# Altium schematic symbol library vesc.SchLib: 12 symbols
Pins are listed as number, name and electrical type; pins without a type are passive.

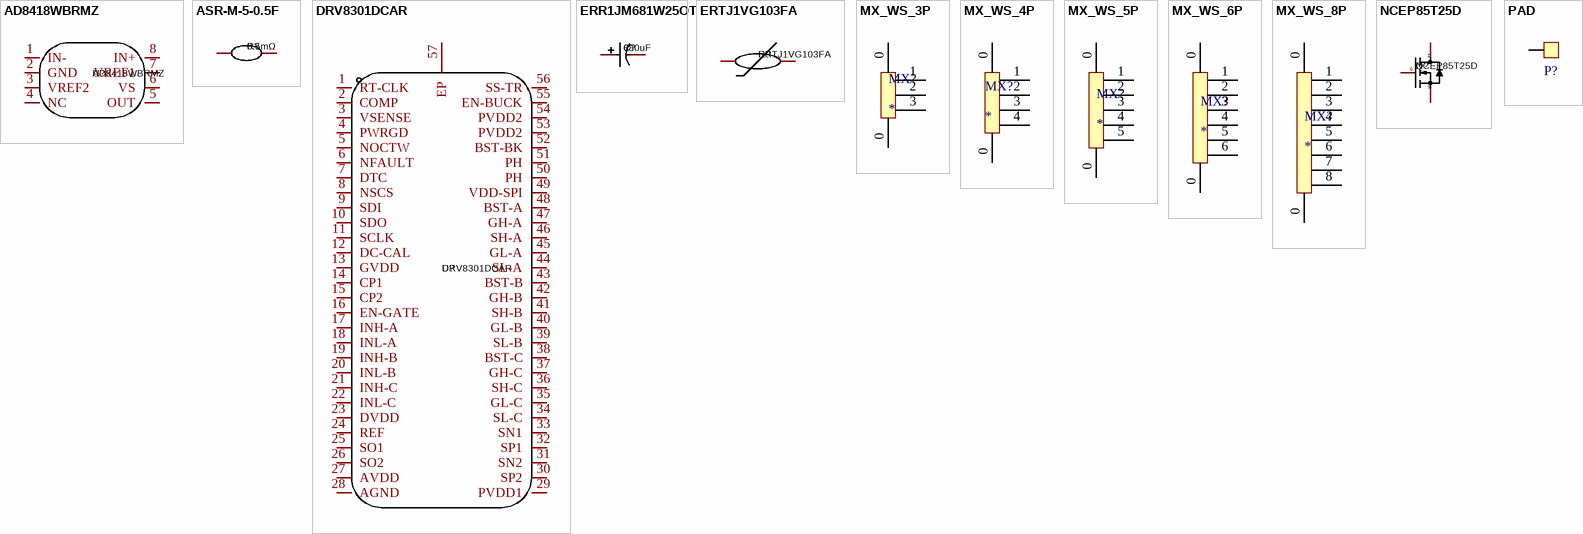
[diagram p0: symbols AD8418WBRMZ to PAD]

## AD8418WBRMZ
designator U?
Manufacturer: ADI(亚德诺); Add into BOM: yes; Number of Channels: 单路; Supply Current: 2.6mA; Name: AD8418WBRMZ; Symbol: AD8418WBRMZ; Device: AD8418WBRMZ; LCSC Part Name: AD8418WBRMZ; Supplier Part: C207727; Manufacturer Part: AD8418WBRMZ; Supplier Footprint: MSOP-8; JLCPCB Part Class: Extended Part; Datasheet: https://atta.szlcsc.com/upload/public/pdf/source/20200312/C495342_AB22F5CA716828B66C7BAA0F926F15C0.pdf; Supplier: LCSC; Convert to PCB: yes; Operating Temperature: -40℃~+125℃
footprint MSOP-8_L3.0-W3.0-P0.65-LS5.0-BL
3D model MSOP-8_L3.0-W3.0-P0.65-LS5.0-BL
pins: 1 IN-, 2 GND, 3 VREF2, 4 NC, 5 OUT, 6 VS, 7 VREF1, 8 IN+

## ASR-M-5-0.5F
designator R?, comment 0.5mΩ
Manufacturer: yezhan(业展); Symbol: ASR-M-5-0.5F; Add into BOM: yes; Tolerance: ±1%; Power(Watts): 9W; Temperature Coefficient: ±70ppm/℃; Mounting Sytle: 贴片; Name: 0.5mΩ; Device: ASR-M-5-0.5F; LCSC Part Name: 0.5mΩ ±1% 9W; Supplier Part: C469433; Manufacturer Part: ASR-M-5-0.5F; Supplier Footprint: 3920; JLCPCB Part Class: Extended Part; Datasheet: https://atta.szlcsc.com/upload/public/pdf/source/20231030/E912096EFF708041568A0F74B4C79E56.pdf; Supplier: LCSC; Convert to PCB: yes; Type: 分流器; Value: 0.5mΩ; Rated Output Voltage: -; Rated Current: -
footprint R3920
3D model R3920
pins: 1, 2

## DRV8301DCAR
designator U?
Manufacturer: TI(德州仪器); Add into BOM: yes; Name: DRV8301DCAR; Symbol: DRV8301DCAR; Device: DRV8301DCAR; LCSC Part Name: 无刷直流BLDC电机驱动芯片 60V; Supplier Part: C98969; Manufacturer Part: DRV8301DCAR; Supplier Footprint: HTSSOP-56-6mm; JLCPCB Part Class: Extended Part; Datasheet: https://www.ti.com/cn/lit/gpn/drv8301; Supplier: LCSC; Convert to PCB: yes
footprint HTSSOP-56_L14.0-W6.0-P0.50-LS8.0-BL
3D model HTSSOP-56_L14.0-W6.1-H1.2-LS8.2-P0.50
pins: 1 RT-CLK, 2 COMP, 3 VSENSE, 4 PWRGD, 5 NOCTW, 6 NFAULT, 7 DTC, 8 NSCS, 9 SDI, 10 SDO, 11 SCLK, 12 DC-CAL, 13 GVDD, 14 CP1, 15 CP2, 16 EN-GATE, 17 INH-A, 18 INL-A, 19 INH-B, 20 INL-B, 21 INH-C, 22 INL-C, 23 DVDD, 24 REF, 25 SO1, 26 SO2, 27 AVDD, 28 AGND, 29 PVDD1, 30 SP2, 31 SN2, 32 SP1, 33 SN1, 34 SL-C, 35 GL-C, 36 SH-C, 37 GH-C, 38 BST-C, 39 SL-B, 40 GL-B, 41 SH-B, 42 GH-B, 43 BST-B, 44 SL-A, 45 GL-A, 46 SH-A, 47 GH-A, 48 BST-A, 49 VDD-SPI, 50 PH, 51 PH, 52 BST-BK, 53 PVDD2, 54 PVDD2, 55 EN-BUCK, 56 SS-TR, 57 EP

## ERR1JM681W25OT
designator C?, comment 680uF
Manufacturer: AISHI(艾华集团); Symbol: ERR1JM681W25OT; Add into BOM: yes; Tolerance: ±20%; Rated Voltage: 63V; φD: 12.5mm; L: 25mm; Lifetime @ Temp: 2000hrs@105℃; Name: 680uF; Device: ERR1JM681W25OT; LCSC Part Name: 680uF ±20% 63V; Supplier Part: C106632; Manufacturer Part: ERR1JM681W25OT; Supplier Footprint: 插件,D12.5xL25mm; JLCPCB Part Class: Extended Part; Datasheet: https://atta.szlcsc.com/upload/public/pdf/source/20190702/C401591_1676EF45BC9A88BD1D6B22BBAE3913C7.pdf; Supplier: LCSC; Convert to PCB: yes; Value: 680uF; Lead Spacing: 5mm
footprint CAP-TH_BD12.5-P5.00-D0.6-FD
3D model CAP-TH_D12.5-H20.0-P5.00
pins: 1, 2

## ERTJ1VG103FA
designator R?
Manufacturer: PANASONIC(松下); Symbol: ERT-J1VG103FA; Add into BOM: yes; Resistance @ 25℃: 10kΩ; B Constant (25℃/50℃): 3380K; Resistance Tolerance: ±1%; B Constant (25℃/85℃): 3435K; Power: 100mW; Name: ERTJ1VG103FA; Device: ERTJ1VG103FA; LCSC Part Name: 10kΩ 电阻精度:±1% 3380K; Supplier Part: C153011; Manufacturer Part: ERTJ1VG103FA; Supplier Footprint: 0603; JLCPCB Part Class: Extended Part; Datasheet: https://atta.szlcsc.com/upload/public/pdf/source/20180420/C178739_3B90639CA07E4EB840BCF39529957312.pdf; Supplier: LCSC; Convert to PCB: yes; B Constant (25℃/75℃): -; B Constant (25℃/100℃): -; B Constant Tolerance: ±1%; Steady State Current (Max): -; Operating Temperature: -40℃~+125℃
footprint R0603
3D model R0603
pins: 1, 2

## MX_WS_3P
designator MX?
footprint MX 1.25-WS-3P (长：8.9mm，宽：4.2mm，高：3.4mm)
pins: 0 (power), 0 (power), 1, 2, 3

## MX_WS_4P
designator MX?
footprint MX 1.25-WS-4P (长：10.15mm，宽：4.2mm，高：3.4mm)
pins: 0 (power), 0 (power), 1, 2, 3, 4

## MX_WS_5P
designator MX?
footprint MX 1.25-WS-5P (长：11.4mm，宽：4.2mm，高：3.4mm)
pins: 0 (power), 0 (power), 1, 2, 3, 4, 5

## MX_WS_6P
designator MX?
footprint MX 1.25-WS-6P (长：12.65mm，宽：4.2mm，高：3.4mm)
pins: 0 (power), 0 (power), 1, 2, 3, 4, 5, 6

## MX_WS_8P
designator MX?
footprint MX 1.25-WS-8P (长：15.15mm，宽：4.2mm，高：3.4mm)
pins: 0 (power), 0 (power), 1, 2, 3, 4, 5, 6, 7, 8

## NCEP85T25D
designator Q?
Manufacturer: NCE(无锡新洁能); Add into BOM: yes; Type: N沟道; Drain Source Voltage (Vdss): 85V; Continuous Drain Current (Id): 250A; Power Dissipation (Pd): 300W; Drain Source On Resistance (RDS(on)@Vgs,Id): 2.6mΩ@10V,100A; Gate Threshold Voltage (Vgs(th)@Id): 4.5V@250uA; Name: NCEP85T25D; Symbol: NCEP85T25D; Device: NCEP85T25D; LCSC Part Name: N沟道 耐压:85V 电流:250A; Supplier Part: C181921; Manufacturer Part: NCEP85T25D; Supplier Footprint: TO-263-2; JLCPCB Part Class: Extended Part; Datasheet: https://atta.szlcsc.com/upload/public/pdf/source/20180131/C181921_15173932479761329348.pdf; Supplier: LCSC; Convert to PCB: yes
footprint TO-263-2_L10.0-W9.1-P5.08-LS15.2-TL
3D model TO-263-2_L10.2-W8.7-H4.5_LS15.2-P2.54
pins: 1 G, 3 S, 4 D

## PAD
designator P?
Manufacturer: AMASS(艾迈斯); Name: XT30U-M; Symbol: DC电源; Pin Type: IN; Add into BOM: yes; Device: XT30U-M; Convert to PCB: yes; Supplier Part: C99101; Supplier: LCSC; Manufacturer Part: XT30U-M; JLCPCB Part Class: 扩展库
footprint XT30U_M_Null (XT30焊盘_不包含3D)
footprint XT60双面
footprint XT60双面-小 (XT60双面)
footprint PAD
pins: 1